# Altium footprint library CaRe_PCBLib.PcbLib: 40 footprints (part 1 of 3)
Each footprint in its own frame and in the unit in brackets; x right, y up, seen from the top. Pads: shape width x height; smd on the part's side, far side on the other; paste and mask are expansions set on the pad; w line width, h text height; cw(c..) or ccw(c..) is an arc to the next point about the centre after c.
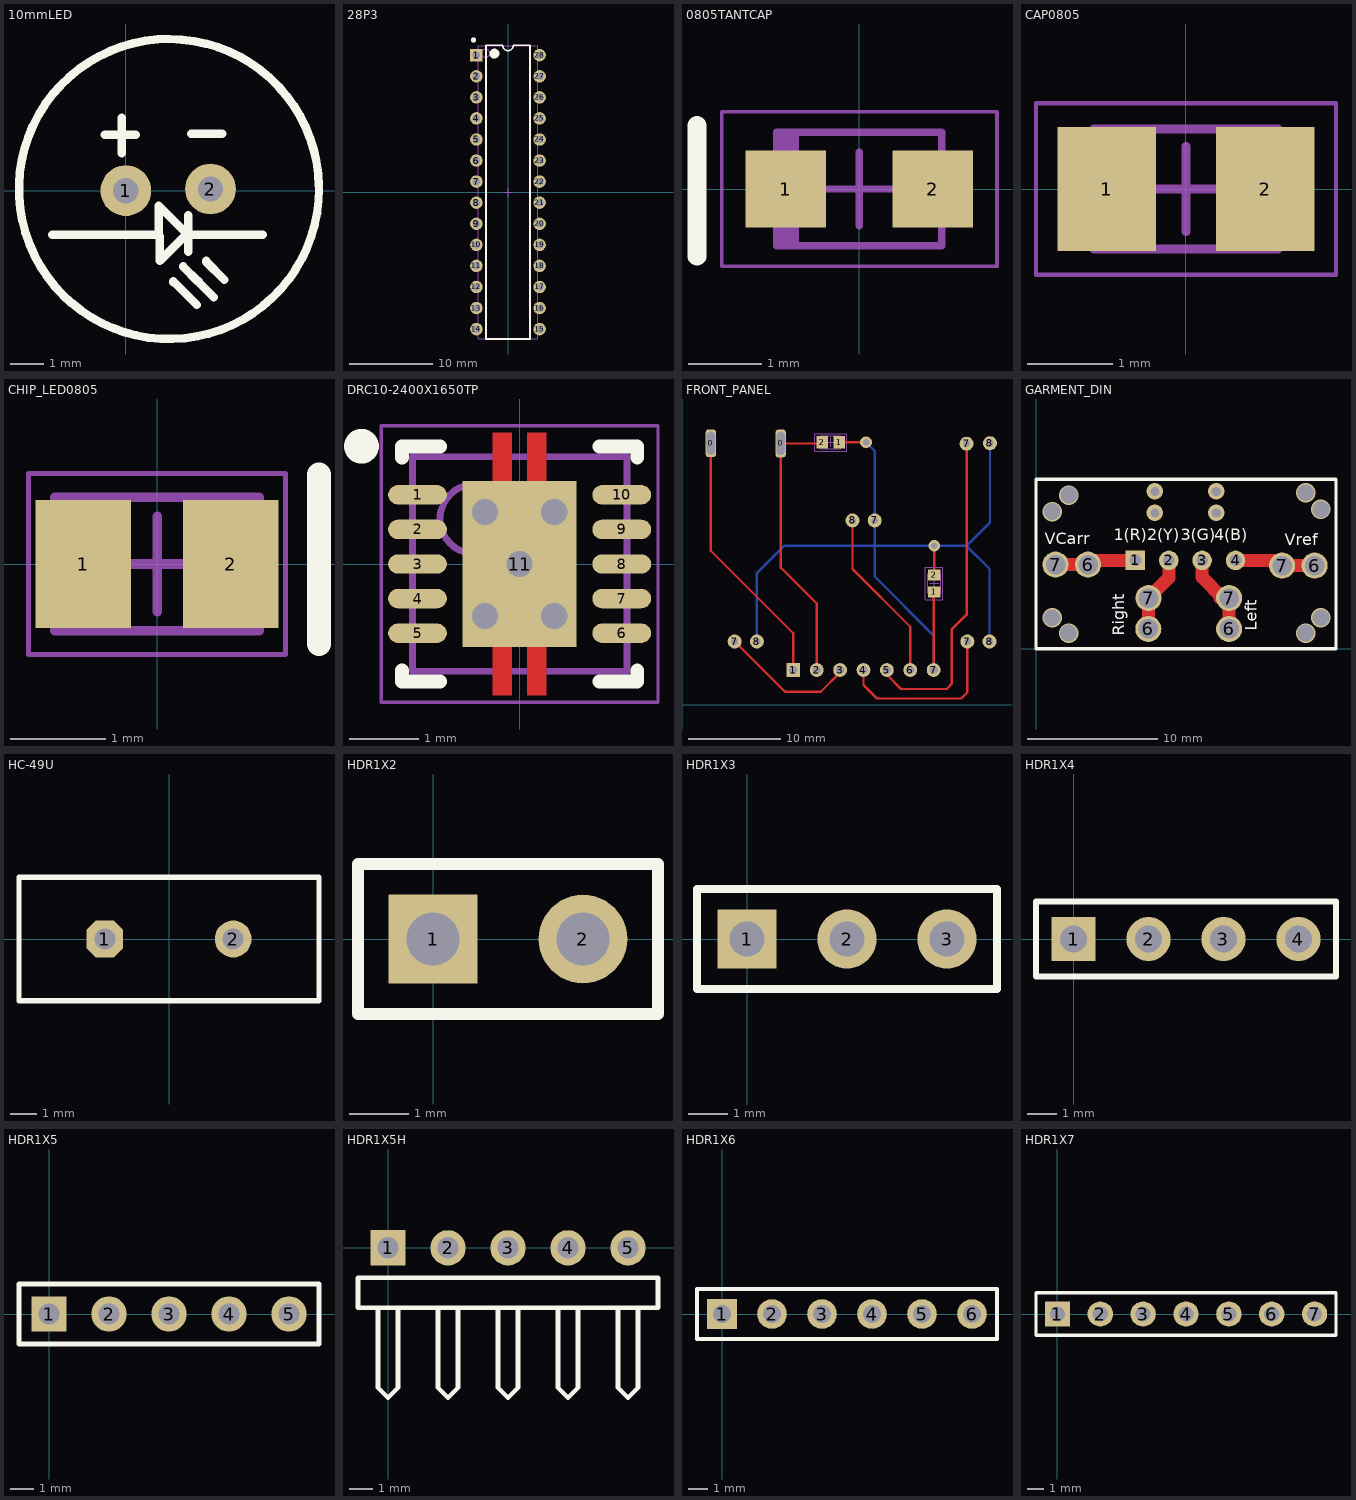
[diagram p0: the footprints below, top view; thin cyan lines are the x and y axes]

## 10mmLED [mil]
pads (2):
  round 60 hole 30: 1(0,0) 2(100,2)
Top Overlay:
  lines w10: -87,-52 38,-52 39,-51 39,-18 71,-50 71,-52 ; -25,66 12,66 ; -5,44 -5,86 ; 40,-54 40,-83 71,-52 ; 56,-107 56,-108 57,-108 84,-135 ; 68,-89 68,-90 85,-107 86,-107 86,-108 104,-126 ; 74,-72 74,-29 ; 77,67 114,67 ; 95,-83 95,-84 116,-105 ; 162,-52 139.25,-52 93.75,-52 71,-52 ; 228.17,2 cw(c51,2) 228.13,5.61

## 28P3 [mm] "DIP, 28-Leads, Row Spacing 7.62mm, Pitch 2.54mm, Body 34.67x7.3mm"
height 4.58
pads (28):
  rect 1.5x1.5 hole 0.9: 1(-3.81,16.51)
  round 1.5 hole 0.9: 2(-3.81,13.97) 3(-3.81,11.43) 4(-3.81,8.89) 5(-3.81,6.35) 6(-3.81,3.81) 7(-3.81,1.27) 8(-3.81,-1.27) 9(-3.81,-3.81) 10(-3.81,-6.35) 11(-3.81,-8.89) 12(-3.81,-11.43) 13(-3.81,-13.97) 14(-3.81,-16.51) 15(3.81,-16.51) 16(3.81,-13.97) 17(3.81,-11.43) 18(3.81,-8.89) 19(3.81,-6.35) 20(3.81,-3.81) 21(3.81,-1.27) 22(3.81,1.27) 23(3.81,3.81) 24(3.81,6.35) 25(3.81,8.89) 26(3.81,11.43) 27(3.81,13.97) 28(3.81,16.51)
Top Overlay:
  circle w0.4: c-4.164,18.339 r0.125
  circle w0.6: c-1.65,16.7 r0.3
  lines w0.2: -2.65,-17.7 -2.65,17.7 -0.635,17.7 ccw(c0,17.7) 0.635,17.7 2.65,17.7 2.65,-17.7 -2.65,-17.7
Mechanical 13:
  circle w0.1: c-2.7,16.75 r0.5
  lines w0.1: -3.6,-17.65 -3.6,17.65 3.6,17.65 3.6,-17.65 -3.6,-17.65
Mechanical 15:
  lines w0.1: -0.5,0 0.5,0 ; 0,-0.5 0,0.5
3D body: height 8.89, standoff 1.32, extent -3.935,-18 3.935,18
3D body: height 4.07, standoff -3.3, extent -5.05,-17.75 5.05,17.75

## 0805TANTCAP [mm] "0805 TANTALUM CAPACITOR MOLDED"
height 1.5
pads (2):
  rect 1.1x1.05 smd: 1(-1,0) 2(1,0)
Top Overlay:
  lines w0.254: -2.21,-0.914 -2.21,0.864
Mechanical 13:
  rectangle: -1.125,-0.775 -0.822,0.775
  lines w0.1: -1.125,-0.775 1.125,-0.775 1.125,0.775 -1.125,0.775 -1.125,-0.775
Mechanical 15:
  lines w0.05: -1.875,-1.05 1.875,-1.05 1.875,1.05 -1.875,1.05 -1.875,-1.05
  lines w0.1: -0.5,0 0.5,0 ; 0,-0.5 0,0.5
3D body: height 0.78, standoff 0, extent -1,-0.625 1,0.625

## CAP0805 [mm] "Chip Capacitor 0805 Package"
height 0.65
pads (2):
  rect 1.15x1.45 smd: 1(-0.925,0) 2(0.925,0)
Mechanical 13:
  lines w0.1: -1.075,-0.7 1.075,-0.7 1.075,0.7 -1.075,0.7 -1.075,-0.7
Mechanical 15:
  lines w0.05: -1.75,-1 1.75,-1 1.75,1 -1.75,1 -1.75,-1
  lines w0.1: -0.5,0 0.5,0 ; 0,-0.5 0,0.5
3D body: height 0.78, standoff 0, extent -1,-0.625 1,0.625

## CHIP_LED0805 [mm] "LED 0805"
height 1.1
pads (2):
  rect 1x1.35 smd: 1(-0.775,0) 2(0.775,0)
Top Overlay:
  lines w0.254: 1.702,-0.838 1.702,0.94
Mechanical 13:
  lines w0.1: -1.075,-0.7 -1.075,0.7 1.075,0.7 1.075,-0.7 -1.075,-0.7
Mechanical 15:
  lines w0.05: -1.35,-0.95 -1.35,0.95 1.35,0.95 1.35,-0.95 -1.35,-0.95
  lines w0.1: -0.5,0 0.5,0 ; 0,-0.5 0,0.5
3D body: height 1.1, standoff 0, extent -1.075,-0.7 1.075,0.7

## DRC10-2400X1650TP [mm] "SON, 10-Leads, Body 3x3mm, Pitch 0.5mm, Thermal Pad 2.4x1.65mm, TI Recommended"
height 1
pads (11):
  oval 0.85x0.28 smd paste-0.025 mask+0.07: 1(-1.475,1) 2(-1.475,0.5) 3(-1.475,0) 4(-1.475,-0.5) 5(-1.475,-1) 6(1.475,-1) 7(1.475,-0.5) 8(1.475,0) 9(1.475,0.5) 10(1.475,1)
  rect 1.65x2.4 smd paste-0.825 mask+0.07: 11(0,0)
via -0.5,0.75 diameter 0.58 hole 0.38
via 0,0 diameter 0.58 hole 0.38
via 0.5,0.75 diameter 0.58 hole 0.38
via -0.5,-0.75 diameter 0.58 hole 0.38
via 0.5,-0.75 diameter 0.58 hole 0.38
Top Layer:
  rectangle: -0.39,1.2 -0.11,1.9
  region: 0.39,1.9 0.11,1.9 0.11,1.2 0.39,1.2
  region: 0.39,-1.2 0.11,-1.2 0.11,-1.9 0.39,-1.9
  rectangle: -0.39,-1.9 -0.11,-1.2
Top Overlay:
  circle w0.4: c-2.285,1.702 r0.05
  lines w0.2: -1.7,-1.54 -1.7,-1.7 -1.15,-1.7 ; -1.7,1.54 -1.7,1.7 -1.15,1.7 ; 1.15,-1.7 1.7,-1.7 1.7,-1.54 ; 1.15,1.7 1.7,1.7 1.7,1.54
Top Paste:
  rectangle: -0.79,0.11 -0.11,1.16
  rectangle: -0.38,1.38 -0.12,1.88
  region: 0.38,1.88 0.12,1.88 0.12,1.38 0.38,1.38
  region: 0.38,-1.38 0.12,-1.38 0.12,-1.88 0.38,-1.88
  rectangle: -0.38,-1.88 -0.12,-1.38
  region: 0.79,1.16 0.11,1.16 0.11,0.11 0.79,0.11
  region: 0.79,-0.11 0.11,-0.11 0.11,-1.16 0.79,-1.16
  rectangle: -0.79,-1.16 -0.11,-0.11
Mechanical 13:
  circle w0.1: c-0.65,0.65 r0.5
  lines w0.1: -1.55,-1.55 -1.55,1.55 1.55,1.55 1.55,-1.55 -1.55,-1.55
Mechanical 15:
  lines w0.05: -2,-2 -2,2 2,2 2,-2 -2,-2
3D body: height 1, standoff 0, extent -1.55,-1.55 1.55,1.55

## FRONT_PANEL [mil]
pads (21):
  rrect50% 43.31x118.11 hole 35.43 slot 98.43 at 90 deg: 0(123,1118) 0(422,1117)
  rect 59.06x59.06 hole 35.43: 1(476,148)
  rect 47.24x53.15 smd: 1(672.42,1122) 2(599.58,1122)
  rect 53.15x47.24 smd: 1(1078,482) 2(1078,554.83)
  round 59.06 hole 35.43: 2(576,148) 3(676,148) 4(776,148) 5(876,148) 6(976,148) 7(1076,148)
  round 60 hole 30: 7(225,270) 7(824,788) 7(1217,1116) 7(1220,270) 8(320,270) 8(729,788) 8(1315,270) 8(1317,1118)
via 787,1122 diameter 50 hole 28
via 1078,679 diameter 50 hole 28
Top Layer:
  lines w10: 123,1118 123,658 476,305 476,148 ; 225,270 440,55 593,55 676,138 676,148 ; 576,148 576,432 422,586 422,1117 594.58,1117 ; 672.42,1122 787,1122 ; 729,788 729,580 976,333 976,148 976,200 ; 776,148 776,84 834,26 1194,26 1220,52 1220,270 ; 876,148 876,128 937,67 1132,67 1153,88 1153,321 1217,385 1217,1116 ; 1076,148 1076,480 ; 1078,554.83 1078,679
Bottom Layer:
  lines w10: 320,270 320,563 436,679 1217,679 ; 787,1122 824,1085 824,788 824,548 1076,296 1076,148 ; 1315,270 1315,581 1217,679 ; 1317,1118 1317,779 1217,679
Bottom Overlay:
  text "GND" at 847,857 h60
  text "ALM" at 747,859 h60
  text "LED3+" at 1201,1327 h60
  text "LED2+" at 1198,481 h60
  text "+5V" at 103,1323 h60
  text "LED1+" at 200,478 h60
  text "GND" at 1089,193 h60
  text "ALMOUT" at 989,193 h60
  text "LED3" at 884,193 h60
  text "LED2" at 786,193 h60
  text "LED1" at 688,193 h60
  text "MONITOREN" at 590,193 h60
  text "+5V" at 479,193 h60
Mechanical 13:
  lines w3.94: 593.68,1094.44 678.32,1094.44 678.32,1149.56 593.68,1149.56 593.68,1094.44 ; 1050.44,476.09 1105.56,476.09 1105.56,560.74 1050.44,560.74 1050.44,476.09
Mechanical 15:
  lines w1.97: 567.1,1084.6 704.9,1084.6 704.9,1159.4 567.1,1159.4 567.1,1084.6 ; 1040.6,449.52 1115.4,449.52 1115.4,587.32 1040.6,587.32 1040.6,449.52
  lines w3.94: 616.31,1122 655.68,1122 ; 636,1102.32 636,1141.68 ; 1058.32,518.42 1097.68,518.42 ; 1078,498.73 1078,538.1
3D body: height 30.79, standoff 0, extent 596.62,1097.39 675.36,1146.6
3D body: height 30.79, standoff 0, extent 1053.39,479.05 1102.6,557.79
3D body: height -70.87, standoff -135.87, extent 0,0 1540,1390

## GARMENT_DIN [mm]
pads (12):
  rect 1.5x1.5 hole 0.9: 1(7.62,6.782)
  round 1.5 hole 0.9: 2(10.179,6.782) 3(12.738,6.782) 4(15.298,6.782)
  round 2 hole 1.5: 6(3.99,6.452) 6(8.611,1.524) 6(14.808,1.524) 6(21.363,6.375) 7(1.499,6.452) 7(8.627,3.886) 7(14.808,3.886) 7(18.872,6.375)
via 13.818,12.065 diameter 1.27 hole 0.711
via 9.119,12.065 diameter 1.27 hole 0.711
via 13.818,10.414 diameter 1.27 hole 0.711
via 9.119,10.414 diameter 1.27 hole 0.711
via 20.668,11.963 diameter 1.5 hole 1.3
via 21.844,10.693 diameter 1.5 hole 1.3
via 20.668,1.204 diameter 1.5 hole 1.3
via 21.844,2.38 diameter 1.5 hole 1.3
via 1.237,2.38 diameter 1.5 hole 1.3
via 2.507,1.204 diameter 1.5 hole 1.3
via 2.515,11.786 diameter 1.5 hole 1.3
via 1.245,10.516 diameter 1.5 hole 1.3
Top Layer:
  lines w1: 1.499,6.452 3.99,6.452 4.32,6.782 7.62,6.782 ; 8.611,1.549 8.611,3.87 10.179,5.439 10.179,6.782 ; 12.738,6.782 12.738,5.473 14.326,3.886 14.808,3.886 14.122,3.886 ; 14.808,1.524 14.808,3.861 ; 15.298,6.782 18.466,6.782 18.872,6.375 21.363,6.375
Top Overlay:
  lines w0.254: 0,0 0,13 23,13 23,0 0,0
  text "4(B)" at 13.665,8.001 h1.52
  text "3(G)" at 11.1,8.001 h1.52
  text "2(Y)" at 8.533,8.001 h1.52
  text "1(R)" at 5.969,8.001 h1.52
  text "Vref" at 19.075,7.645 h1.52
  text "Left" at 17.221,1.372 h1.52
  text "Right" at 7.087,0.991 h1.52
  text "VCarr" at 0.66,7.696 h1.52

## HC-49U [mm] "Quartz Crystal, Thru-Hole; 2 Leads; Body 11.35 x 4.65 x 13.46 mm (LxWxH max)"
height 13.46
pads (2):
  oct 1.4x1.4 hole 0.8: 1(-2.44,0)
  round 1.4 hole 0.8: 2(2.44,0)
Top Overlay:
  lines w0.2: -5.7,-2.35 -5.7,2.35 5.7,2.35 5.7,-2.35 -5.7,-2.35
3D body: height 13.49, standoff -1.97, extent -5.588,-2.362 5.584,2.31

## HDR1X2 [mm] "Connector; Header; 2 Position"
pads (2):
  rect 1.5x1.5 hole 0.9: 1(0,0)
  round 1.5 hole 0.9: 2(2.54,0)
Top Overlay:
  lines w0.2: -1.27,-1.27 3.81,-1.27 3.81,1.27 -1.27,1.27 -1.27,-1.27

## HDR1X3 [mm] "Connector; Header; 3 Position"
pads (3):
  rect 1.5x1.5 hole 0.9: 1(0,0)
  round 1.5 hole 0.9: 2(2.54,0) 3(5.08,0)
Top Overlay:
  lines w0.2: -1.27,-1.27 6.35,-1.27 6.35,1.27 -1.27,1.27 -1.27,-1.27

## HDR1X4 [mm] "Connector; Header; 4 Position"
pads (4):
  rect 1.5x1.5 hole 0.9: 1(0,0)
  round 1.5 hole 0.9: 2(2.54,0) 3(5.08,0) 4(7.62,0)
Top Overlay:
  lines w0.2: -1.27,-1.27 -1.27,1.27 8.89,1.27 8.89,-1.27 -1.27,-1.27

## HDR1X5 [mm] "Connector; Header; 5 Position"
pads (5):
  rect 1.5x1.5 hole 0.9: 1(0,0)
  round 1.5 hole 0.9: 2(2.54,0) 3(5.08,0) 4(7.62,0) 5(10.16,0)
Top Overlay:
  lines w0.2: -1.27,-1.27 -1.27,1.27 11.43,1.27 11.43,-1.27 -1.27,-1.27

## HDR1X5H [mm] "Connector; Header; 5 Position; Right Angle"
pads (5):
  rect 1.5x1.5 hole 0.9: 1(0,0)
  round 1.5 hole 0.9: 2(2.54,0) 3(5.08,0) 4(7.62,0) 5(10.16,0)
Top Overlay:
  lines w0.2: -0.423,-2.54 -0.423,-5.927 0,-6.35 0.423,-5.927 0.423,-2.54 ; 2.117,-2.54 2.117,-5.927 2.54,-6.35 2.963,-5.927 2.963,-2.54 ; 4.657,-2.54 4.657,-5.927 5.08,-6.35 5.503,-5.927 5.503,-2.54 ; 7.197,-2.54 7.197,-5.927 7.62,-6.35 8.043,-5.927 8.043,-2.54 ; 9.737,-2.54 9.737,-5.927 10.16,-6.35 10.583,-5.927 10.583,-2.54 ; -1.27,-2.54 11.43,-2.54 11.43,-1.27 -1.27,-1.27 -1.27,-2.54

## HDR1X6 [mm] "Connector; Header; 6 Position"
pads (6):
  rect 1.5x1.5 hole 0.9: 1(0,0)
  round 1.5 hole 0.9: 2(2.54,0) 3(5.08,0) 4(7.62,0) 5(10.16,0) 6(12.7,0)
Top Overlay:
  lines w0.2: -1.27,-1.27 -1.27,1.27 13.97,1.27 13.97,-1.27 -1.27,-1.27

## HDR1X7 [mm] "Connector; Header; 7 Position"
pads (7):
  rect 1.5x1.5 hole 0.9: 1(0,0)
  round 1.5 hole 0.9: 2(2.54,0) 3(5.08,0) 4(7.62,0) 5(10.16,0) 6(12.7,0) 7(15.24,0)
Top Overlay:
  lines w0.2: -1.27,-1.27 -1.27,1.27 16.51,1.27 16.51,-1.27 -1.27,-1.27